# Altium schematic symbol library SMTU2032-LF.SchLib: 1 symbol
Pins are listed as number, name and electrical type; pins without a type are passive.

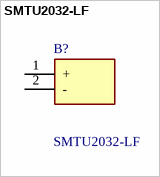
[diagram p0: symbol SMTU2032-LF]

## SMTU2032-LF
designator B?
Coin Cell Battery Holders SFC MNT FOR CR2032; Manufacturer_Name: RENATA; Geometry.Height: 5mm; Mouser Part Number: 614-SMTU2032-LF; Mouser Price/Stock: https://www.mouser.co.uk/ProductDetail/Renata/SMTU2032-LF?qs=r1PAtlylphCLeXbokB9Tog%3D%3D; Manufacturer_Part_Number: SMTU2032-LF; Datasheet Link: https://componentsearchengine.com/Datasheets/1/SMTU2032-LF.pdf
footprint SMTU2032LF
pins: 1 +, 2 -